# EAGLE library part ATMEGA328P (library quadcopter_comp)
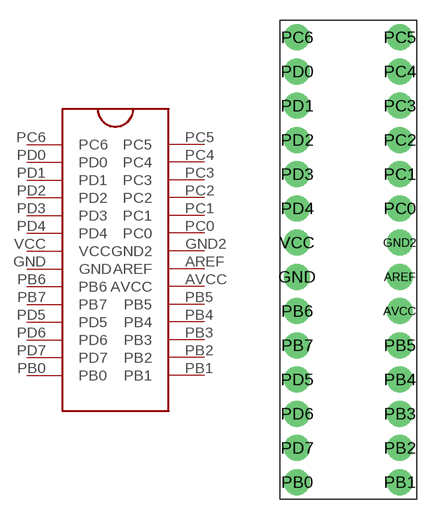
[diagram p6: symbol with the pads of ATMEGA328P; footprint ATMEGA328P]

Designator prefix -

## ATMEGA328P  [ATMEGA328P]
AREF  AREF
AVCC  AVCC
GND  GND
GND2  GND2
PB0  PB0
PB1  PB1
PB2  PB2
PB3  PB3
PB4  PB4
PB5  PB5
PB6  PB6
PB7  PB7
PC0  PC0
PC1  PC1
PC2  PC2
PC3  PC3
PC4  PC4
PC5  PC5
PC6  PC6
PD0  PD0
PD1  PD1
PD2  PD2
PD3  PD3
PD4  PD4
PD5  PD5
PD6  PD6
PD7  PD7
VCC  VCC

## Footprint ATMEGA328P (pad centres in mm)
drill 0.8 pad 1.93: AREF 3.81,-1.27; AVCC 3.81,-3.81; GND -3.81,-1.27; GND2 3.81,1.27; PB0 -3.81,-16.51; PB1 3.81,-16.51; PB2 3.81,-13.97; PB3 3.81,-11.43; PB4 3.81,-8.89; PB5 3.81,-6.35; PB6 -3.81,-3.81; PB7 -3.81,-6.35; PC0 3.81,3.81; PC1 3.81,6.35; PC2 3.81,8.89; PC3 3.81,11.43; PC4 3.81,13.97; PC5 3.81,16.51; PC6 -3.81,16.51; PD0 -3.81,13.97; PD1 -3.81,11.43; PD2 -3.81,8.89; PD3 -3.81,6.35; PD4 -3.81,3.81; PD5 -3.81,-8.89; PD6 -3.81,-11.43; PD7 -3.81,-13.97; VCC -3.81,1.27